# Altium integrated library LT3652EDDPBF.IntLib: 1 symbol
Pins are listed as number, name and electrical type; pins without a type are passive.

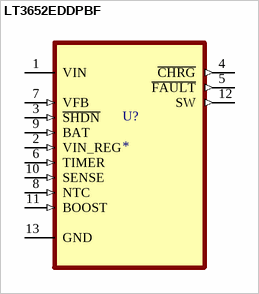
[diagram p0: symbol LT3652EDDPBF]

## LT3652EDDPBF
designator U?
Power Tracking 2A Battery Charger for Solar Power; MP: LT3652EDDPBF; Package: None; Price: None; Value: *; Availability: Unavailable
footprint DFN300X300X80-13N
pins: 1 VIN (power), 2 VIN_REG (in), 3 ~{SHDN} (in), 4 ~{CHRG} (out), 5 ~{FAULT} (out), 6 TIMER (in), 7 VFB (in), 8 NTC (in), 9 BAT (in), 10 SENSE (in), 11 BOOST (in), 12 SW (out), 13 GND